# Altium footprint library PCB - LEADLESS - QFN - TI VQFN32 RHB.PcbLib: 1 footprints
Each footprint in its own frame and in the unit in brackets; x right, y up, seen from the top. Pads: shape width x height; smd on the part's side, far side on the other; paste and mask are expansions set on the pad; w line width, h text height; cw(c..) or ccw(c..) is an arc to the next point about the centre after c.
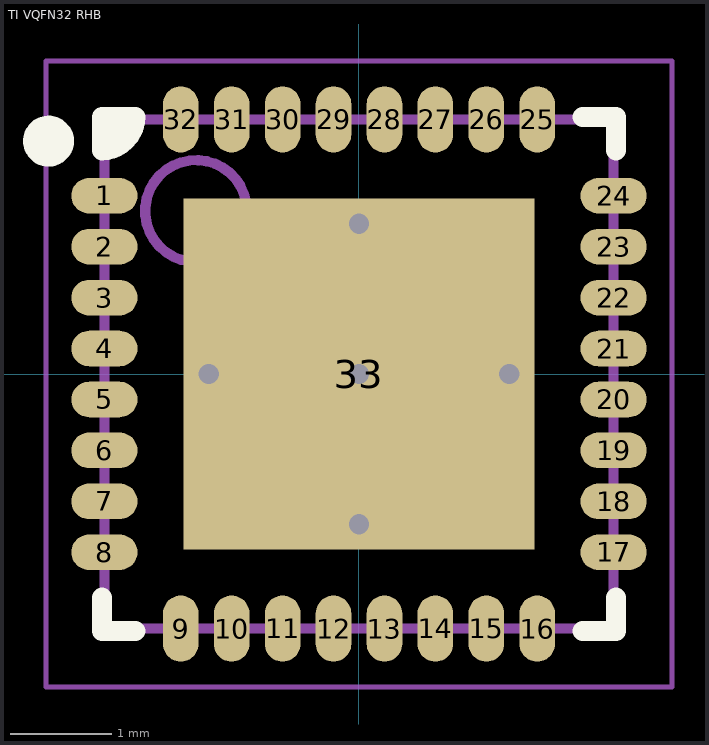
[diagram p0: the footprint, top view; thin cyan lines are the x and y axes]

## TI VQFN32 RHB [mm] "QFN, 32-Leads, Body 5.00x5.00mm, Pitch 0.50mm, Thermal Pad 3.45x3.45mm, IPC Medium Density"
height 1
pads (33):
  oval 0.65x0.35 smd: 1(-2.5,1.75) 2(-2.5,1.25) 3(-2.5,0.75) 4(-2.5,0.25) 5(-2.5,-0.25) 6(-2.5,-0.75) 7(-2.5,-1.25) 8(-2.5,-1.75) 17(2.5,-1.75) 18(2.5,-1.25) 19(2.5,-0.75) 20(2.5,-0.25) 21(2.5,0.25) 22(2.5,0.75) 23(2.5,1.25) 24(2.5,1.75)
  oval 0.35x0.65 smd: 9(-1.75,-2.5) 10(-1.25,-2.5) 11(-0.75,-2.5) 12(-0.25,-2.5) 13(0.25,-2.5) 14(0.75,-2.5) 15(1.25,-2.5) 16(1.75,-2.5) 25(1.75,2.5) 26(1.25,2.5) 27(0.75,2.5) 28(0.25,2.5) 29(-0.25,2.5) 30(-0.75,2.5) 31(-1.25,2.5) 32(-1.75,2.5)
  rect 3.45x3.45 smd: 33(0,0)
via 0,1.475 diameter 0.5 hole 0.2
via -1.475,0 diameter 0.5 hole 0.2
via 0,0 diameter 0.5 hole 0.2
via 1.475,0 diameter 0.5 hole 0.2
via 0,-1.475 diameter 0.5 hole 0.2
Top Overlay:
  circle w0.25: c-3.048,2.286 r0.125
  region: -2.523,2.523 -2.198,2.523 -2.286,2.286 -2.523,2.198
  lines w0.2: -2.523,-2.198 -2.523,-2.523 -2.198,-2.523 ; 2.198,-2.523 2.523,-2.523 2.523,-2.198 ; 2.198,2.523 2.523,2.523 2.523,2.198 ; -2.523,2.198 ccw(c-2.523,2.523) -2.198,2.523 -2.523,2.523 -2.523,2.198
Mechanical 13:
  circle w0.1: c-1.6,1.6 r0.5
  lines w0.1: -2.5,-2.5 -2.5,2.5 2.5,2.5 2.5,-2.5 -2.5,-2.5
Mechanical 15:
  lines w0.05: -3.075,-3.075 -3.075,3.075 3.075,3.075 3.075,-3.075 -3.075,-3.075
  lines w0.1: -0.5,0 0.5,0 ; 0,-0.5 0,0.5
3D body "TI - VQFN32 RHB v1.step": height 1, standoff 0, extent -2.5,-2.5 2.5,2.5